# EAGLE library part 693071010811 (library Input Output Connectors)
CONN MICRO SD CARD PUSH-PUSH R/A Manufacturer's datasheet <https://katalog.we-online.de/em/datasheet/693071010811.pdf>
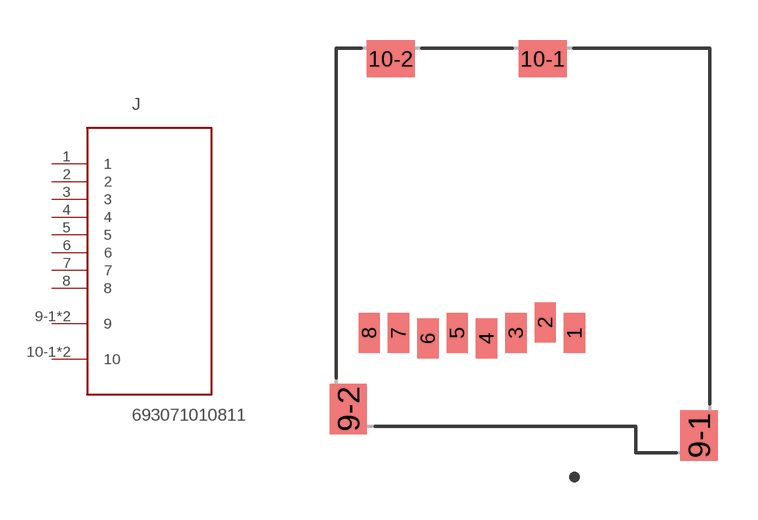
[diagram p7: symbol with the pads of 693071010811; footprint 693071010811]

Designator prefix J

## 693071010811 (CREATED_BY: PCBLayout.com; DIGIKEY_PART_NUMBER: 732-3819-2-ND; MANUFACTURER: Wurth Electronics Inc.; MPN: 693071010811)  [693071010811]
1  1
2  2
3  3
4  4
5  5
6  6
7  7
8  8
9-1  9
9-2  9
10-1  10
10-2  10

## Footprint 693071010811 (pad centres in mm)
smd 0.8 x 1.5: 1 0,0; 2 -1.1,0.4; 3 -2.2,0; 4 -3.3,-0.2; 5 -4.4,0; 6 -5.5,-0.2; 7 -6.6,0; 8 -7.7,0
smd 1.4 x 1.9: 9-1 4.66,-3.85; 9-2 -8.49,-2.85
smd 1.8 x 1.4: 10-1 -1.19,10.3; 10-2 -6.89,10.3